# EAGLE library part HARWIN-M52-5151045 (library connectors)
Harwin Archer M52-5151045 2x10 pin 1.27mm pitch 2.54mm row spacing Female Vertical SMT
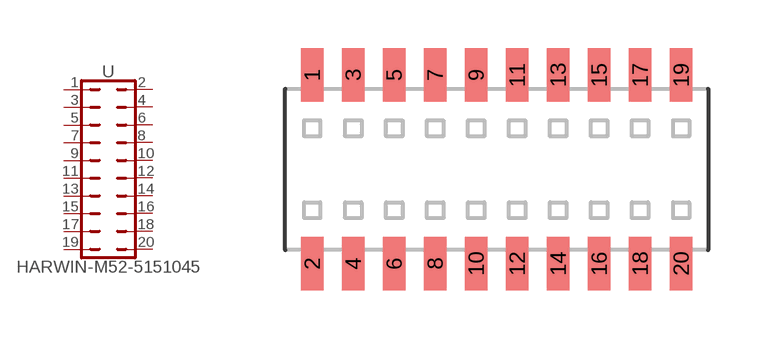
[diagram p0: symbol with the pads of HARWIN-M52-5151045; footprint HARWIN-M52-5151045]

Designator prefix -

## HARWIN-M52-5151045  [HARWIN-M52-5151045]
1  1
2  2
3  3
4  4
5  5
6  6
7  7
8  8
9  9
10  10
11  11
12  12
13  13
14  14
15  15
16  16
17  17
18  18
19  19
20  20

## Footprint HARWIN-M52-5151045 (pad centres in mm)
2x10 pin 1.27mm pitch 2.54mm row spacing Female Vertical SMT
smd 0.69 x 1.65: 1 -5.715,2.925; 2 -5.715,-2.925; 3 -4.445,2.925; 4 -4.445,-2.925; 5 -3.175,2.925; 6 -3.175,-2.925; 7 -1.905,2.925; 8 -1.905,-2.925; 9 -0.635,2.925; 10 -0.635,-2.925; 11 0.635,2.925; 12 0.635,-2.925; 13 1.905,2.925; 14 1.905,-2.925; 15 3.175,2.925; 16 3.175,-2.925; 17 4.445,2.925; 18 4.445,-2.925; 19 5.715,2.925; 20 5.715,-2.925